# Altium footprint library Fuse_SMD.PcbLib: 3 footprints
Each footprint in its own frame and in the unit in brackets; x right, y up, seen from the top. Pads: shape width x height; smd on the part's side, far side on the other; paste and mask are expansions set on the pad; w line width, h text height; cw(c..) or ccw(c..) is an arc to the next point about the centre after c.
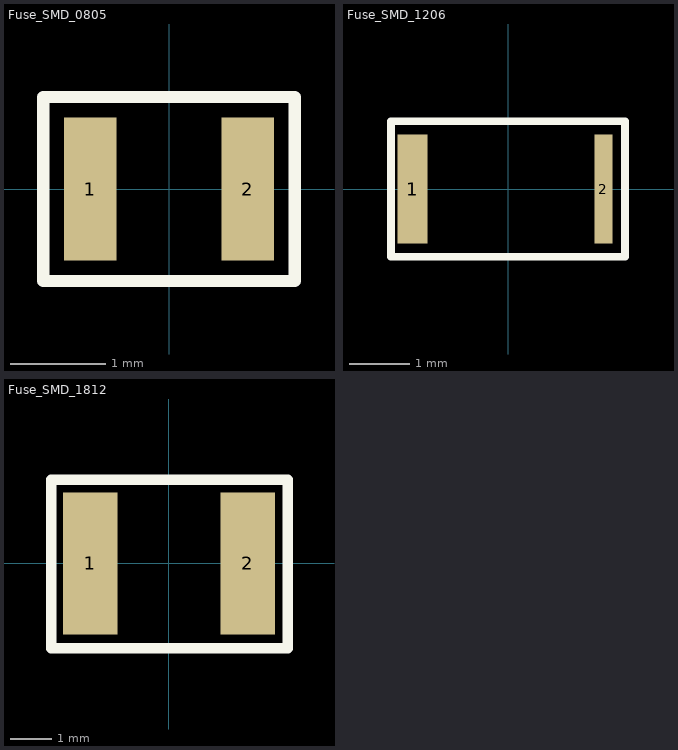
[diagram p0: the footprints below, top view; thin cyan lines are the x and y axes]

## Fuse_SMD_0805 [mm] "Fuse SMD, size 0805"
pads (2):
  rect 0.55x1.5 smd: 1(-0.825,0) 2(0.825,0)
Top Overlay:
  lines w0.127: -1.321,-0.965 1.321,-0.965 1.321,0.965 -1.321,0.965 -1.321,-0.965
3D body "fuse_smd_0805.step": height 0, standoff -0.5, extent -1.1,-0.795 1.1,0.745

## Fuse_SMD_1206 [mm] "Fuse SMD, size 1206"
pads (2):
  rect 0.5x1.8 smd: 1(-1.575,0)
  rect 0.3x1.8 smd: 2(1.575,0)
Top Overlay:
  lines w0.127: -1.93,-1.118 1.93,-1.118 1.93,1.118 -1.93,1.118 -1.93,-1.118
3D body "fuse_smd_1206.step": height 0.5, standoff 0, extent -1.75,-0.92 1.75,0.92

## Fuse_SMD_1812 [mm] "Fuse SMD, size 1812"
pads (2):
  rect 1.3x3.41 smd: 1(-1.89,0) 2(1.89,0)
Top Overlay:
  lines w0.254: -2.819,-2.032 2.845,-2.032 2.845,2.007 -2.819,2.007 -2.819,-2.032
3D body "miniSMDC150F.STEP": height 0.45, standoff -0.03, extent -2.365,-1.705 2.365,1.705